# Altium footprint library Remote.PcbLib: 17 footprints (part 1 of 2)
Each footprint in its own frame and in the unit in brackets; x right, y up, seen from the top. Pads: shape width x height; smd on the part's side, far side on the other; paste and mask are expansions set on the pad; w line width, h text height; cw(c..) or ccw(c..) is an arc to the next point about the centre after c.
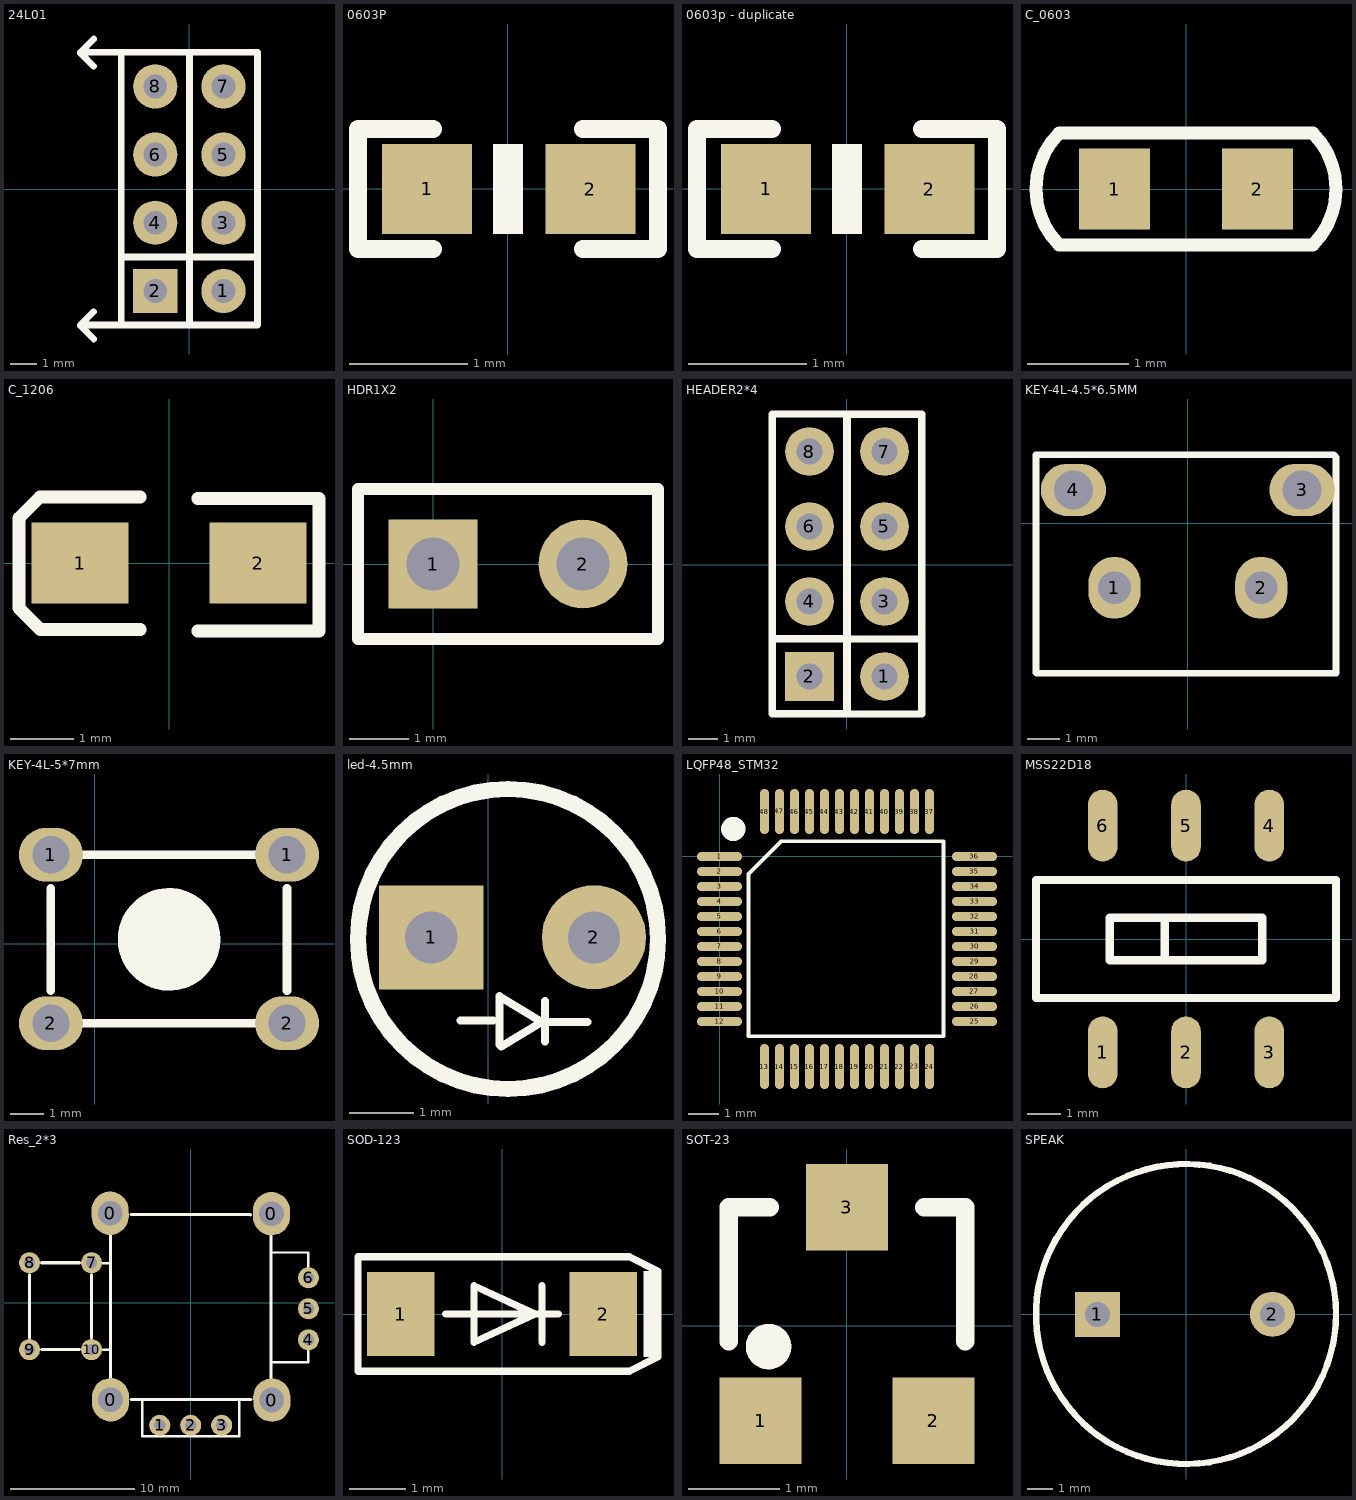
[diagram p0: the footprints below, top view; thin cyan lines are the x and y axes]

## 24L01 [mil]
height 236.22
pads (8):
  round 65 hole 35: 1(50.47,-149.01) 3(50.47,-49.01) 4(-49.53,-49.01) 5(50.47,50.99) 6(-49.53,50.99) 7(50.47,150.99) 8(-49.53,150.99)
  rect 65x65 hole 35: 2(-49.53,-149.01)
Top Overlay:
  lines w10: -159.27,-200 -139.76,-219.5 ; -139.76,-179.5 -159.27,-199.01 -99.53,-199.01 ; -139.76,180.5 -159.27,200 -159.27,200.99 ; -139.76,220.5 -159.27,200.99 ; -99.53,-99.01 0.47,-99.01 100.47,-99.01 ; -159.27,200.99 -99.53,200.99 ; -99.53,-199.01 -99.53,200.99 ; -99.53,-199.01 0.47,-199.01 ; -99.53,200.99 0.47,200.99 ; 0.47,-199.01 0.47,200.99 ; 0.47,-199.01 0.47,200.99 ; 0.47,-199.01 100.47,-199.01 100.47,200.99 0.47,200.99
3D body: height 336.22, standoff -118.11, extent 0.47,-199 100.47,201
3D body: height 336.22, standoff -118.11, extent -99.53,-199 0.47,201

## 0603P [mil]
pads (2):
  rect 30x30 smd: 1(-27,0) 2(27.5,-0.06)
Top Overlay:
  region: 5.02,-15.04 5.02,14.96 -4.98,14.96 -4.98,-15.04
  lines w6: -25,-20.06 -50,-20.06 -50,19.94 -25,19.94 ; 25,-20.06 50,-20.06 50,19.94 25,19.94

## 0603p - duplicate [mil]
pads (2):
  rect 30x30 smd: 1(-27,0) 2(27.5,-0.06)
Top Overlay:
  region: 5.01,-15.04 5.01,14.96 -4.99,14.96 -4.99,-15.04
  lines w6: -25,-20.06 -50,-20.06 -50,19.94 -25,19.94 ; 25,-20.06 50,-20.06 50,19.94 25,19.94

## C_0603 [mm]
height 6
pads (2):
  rect 0.7x0.8 smd: 1(-0.703,0) 2(0.703,0)
Top Overlay:
  lines w0.127: -1.25,-0.55 cw(c-0.7,0) -1.25,0.55 1.25,0.55 cw(c0.7,0) 1.25,-0.55 -1.25,-0.55
3D body: height 0.8, standoff 0, extent -0.8,-0.4 0.8,0.4

## C_1206 [mil]
height 236.22
pads (2):
  rect 60x50 smd: 1(-55,0) 2(55,0)
Top Overlay:
  lines w5: 50.82,39.98 92.72,39.98 ; 60.82,-42.02 92.72,-42.02
  lines w8: -17.82,-41.03 -70.82,-41.03 -79.66,-41.03 -92.82,-27.87 -92.82,-19.03 -92.82,18.75 -92.82,27.93 -79.78,40.97 -70.6,40.97 -17.82,40.97 ; 17.72,-42.02 70.72,-42.02 ; 17.72,39.98 70.72,39.98 ; 44.72,39.98 92.72,39.98 92.72,-42.02 47.72,-42.02
3D body: height 62.99, standoff 0, extent -63,-31.5 62.98,31.5

## HDR1X2 [mm] "Connector; Header; 2 Position"
pads (2):
  rect 1.5x1.5 hole 0.9: 1(0,0)
  round 1.5 hole 0.9: 2(2.54,0)
Top Overlay:
  lines w0.2: -1.27,-1.27 3.81,-1.27 3.81,1.27 -1.27,1.27 -1.27,-1.27

## HEADER2*4 [mil]
height 236.22
pads (8):
  round 65 hole 35: 1(50.47,-149.01) 3(50.47,-49.01) 4(-49.53,-49.01) 5(50.47,50.99) 6(-49.53,50.99) 7(50.47,150.99) 8(-49.53,150.99)
  rect 65x65 hole 35: 2(-49.53,-149.01)
Top Overlay:
  lines w10: -99.53,-99.01 0.47,-99.01 100.47,-99.01 ; 0.47,-199.01 100.47,-199.01 100.47,200.99 0.47,200.99 ; 0.47,-199.01 0.47,200.99 ; 0.47,-199.01 -99.53,-199.01 -99.53,200.99 0.47,200.99 ; 0.47,-199.01 0.47,200.99
3D body: height 336.22, standoff -118.11, extent -99.53,-199 0.47,201
3D body: height 336.22, standoff -118.11, extent 0.47,-199 100.47,201

## KEY-4L-4.5*6.5MM [mm]
pads (4):
  oval 1.6x1.9 hole 1: 1(-2.243,-1.973) 2(2.253,-1.973)
  oval 2x1.6 hole 1.2: 3(3.509,1.027) 4(-3.501,1.027)
Top Overlay:
  lines w0.2: -4.648,-4.572 -4.648,2.108 4.47,2.108 4.547,2.032 4.547,-4.597 ; -4.623,-4.597 4.496,-4.597

## KEY-4L-5*7mm [mm]
pads (4):
  oval 1.9x1.6 hole 1.1: 1(-1.298,2.649) 1(5.711,2.649) 2(-1.298,-2.355) 2(5.711,-2.355)
Top Overlay:
  circle w1.524: c2.206,0.134 r0.762
  lines w0.254: -1.299,-1.39 -1.299,1.658 ; -0.334,-2.355 4.746,-2.355 ; -0.334,2.649 4.746,2.649 ; 5.711,-1.39 5.711,1.658

## led-4.5mm [mil]
pads (2):
  rect 64x64 hole 32: 1(-35,-178)
  round 64 hole 32: 2(65,-178)
Top Overlay:
  circle w10: c12.16,-179 r92.16
  lines w5: -17,-229 3,-229 ; 7,-244 7,-214 ; 8,-245 33,-230 8,-215 ; 35,-242 35,-217 ; 36,-230 61,-230

## LQFP48_STM32 [mm]
height 6
pads (48):
  oval 1.5x0.3 smd: 1(0,0) 2(0,-0.5) 3(0,-1) 4(0,-1.5) 5(0,-2) 6(0,-2.5) 7(0,-3) 8(0,-3.5) 9(0,-4) 10(0,-4.5) 11(0,-5) 12(0,-5.5) 25(8.5,-5.5) 26(8.5,-5) 27(8.5,-4.5) 28(8.5,-4) 29(8.5,-3.5) 30(8.5,-3) 31(8.5,-2.5) 32(8.5,-2) 33(8.5,-1.5) 34(8.5,-1) 35(8.5,-0.5) 36(8.5,0)
  oval 0.3x1.5 smd: 13(1.5,-7) 14(2,-7) 15(2.5,-7) 16(3,-7) 17(3.5,-7) 18(4,-7) 19(4.5,-7) 20(5,-7) 21(5.5,-7) 22(6,-7) 23(6.5,-7) 24(7,-7) 37(7,1.5) 38(6.5,1.5) 39(6,1.5) 40(5.5,1.5) 41(5,1.5) 42(4.5,1.5) 43(4,1.5) 44(3.5,1.5) 45(3,1.5) 46(2.5,1.5) 47(2,1.5) 48(1.5,1.5)
Top Overlay:
  circle w0.5: c0.459,0.919 r0.155
  lines w0.127: 0.965,-5.994 7.465,-5.994 7.465,0.506 2.055,0.506 0.965,-0.584 0.965,-5.994

## MSS22D18 [mil]
height 236.22
pads (6):
  oval 35x85 smd: 1(-98.43,-133.86) 2(0,-133.86) 3(98.43,-133.86) 4(98.43,133.86) 5(0,133.86) 6(-98.43,133.86)
Top Overlay:
  lines w10: -25,-20 -25,20 ; -177.17,-69.69 -177.17,69.69 0,69.69 177.17,69.69 177.17,-69.69 -177.17,-69.69 ; -90,-25 -90,25 0,25 90,25 90,-25 0,-25 -90,-25
3D body: height 82.68, standoff 0, extent -25,-25 90,25
3D body: height 118.11, standoff 0, extent -90,-25 -25,25
3D body: height 78.74, standoff 0, extent -175,-70 175,70

## Res_2*3 [mm]
pads (14):
  oval 3x3.5 hole 2 rot 0.5: 0(-6.499,7.206) 0(-6.464,-7.844) 0(6.516,7.172) 0(6.544,-7.868)
  round 1.7 hole 0.9 mask+0.102: 1(-2.5,-9.9) 2(0,-9.9) 3(2.5,-9.9) 4(9.5,-3) 5(9.5,-0.5) 6(9.5,2)
  round 1.7 hole 0.9: 7(-7.999,3.211) 8(-13.002,3.211) 9(-13.002,-3.798) 10(-7.999,-3.798)
Top Overlay:
  lines w0.2: -7.1,3.16 -6.475,3.16 ; -7.06,-3.8 -6.54,-3.8 ; -3.905,-7.804 -3.905,-10.8 -3.4,-10.8 ; -3.652,-10.8 3.896,-10.8 ; 3.404,-10.796 3.9,-10.796 3.9,-7.8 ; 6.58,-4.8 9.5,-4.8 9.5,-3.9 ; 6.62,4.04 9.5,4.04 9.5,2.9
  lines w0.254: -13.002,-2.834 -13.002,2.246 ; -12.012,-3.799 -8.964,-3.799 ; -12.012,3.211 -8.964,3.211 ; -7.999,-2.834 -7.999,2.246 ; -6.475,-6.16 -6.475,5.498 ; -4.802,-7.811 4.86,-7.811 ; -4.793,7.098 4.827,7.09 ; 6.486,-6.186 6.486,5.473

## SOD-123 [mm]
height 6
pads (2):
  rect 1.2x1.5 smd: 1(-1.8,0) 2(1.8,0)
Top Overlay:
  rectangle: 2.518,-0.762 2.772,0.762
  lines w0.13: -1,0 1,0 ; 0.708,-0.5 0.708,0.5 ; -2.562,-1.016 2.264,-1.016 2.772,-0.762 2.772,0.762 2.264,1.016 -2.562,1.016 -2.562,-1.016 ; -0.5,-0.5 0.581,0 -0.5,0.5 -0.5,-0.5
3D body: height 1.2, standoff 0, extent -1.85,-0.8 1.85,0.8

## SOT-23 [mm] "SOT-23; 3 Leads; Body 3.0 x 2.5 mm, inc. leads (LxW max)"
height 1.2
pads (3):
  rect 0.9x0.95 smd: 1(-0.95,-1.048) 2(0.95,-1.048) 3(0,1.302)
Top Overlay:
  circle w0.25: c-0.863,-0.231 r0.125
  lines w0.2: -1.3,-0.173 -1.3,1.302 -0.85,1.302 ; 0.85,1.302 1.3,1.302 1.3,-0.173

## SPEAK [mm]
pads (2):
  rect 1.8x1.8 hole 1: 1(-3.55,-0.01)
  round 1.8 hole 1: 2(3.45,-0.01)
Top Overlay:
  circle w0.254: c-0.01,0 r6